# Altium footprint library GSM.PcbLib: 6 footprints
Each footprint in its own frame and in the unit in brackets; x right, y up, seen from the top. Pads: shape width x height; smd on the part's side, far side on the other; paste and mask are expansions set on the pad; w line width, h text height; cw(c..) or ccw(c..) is an arc to the next point about the centre after c.
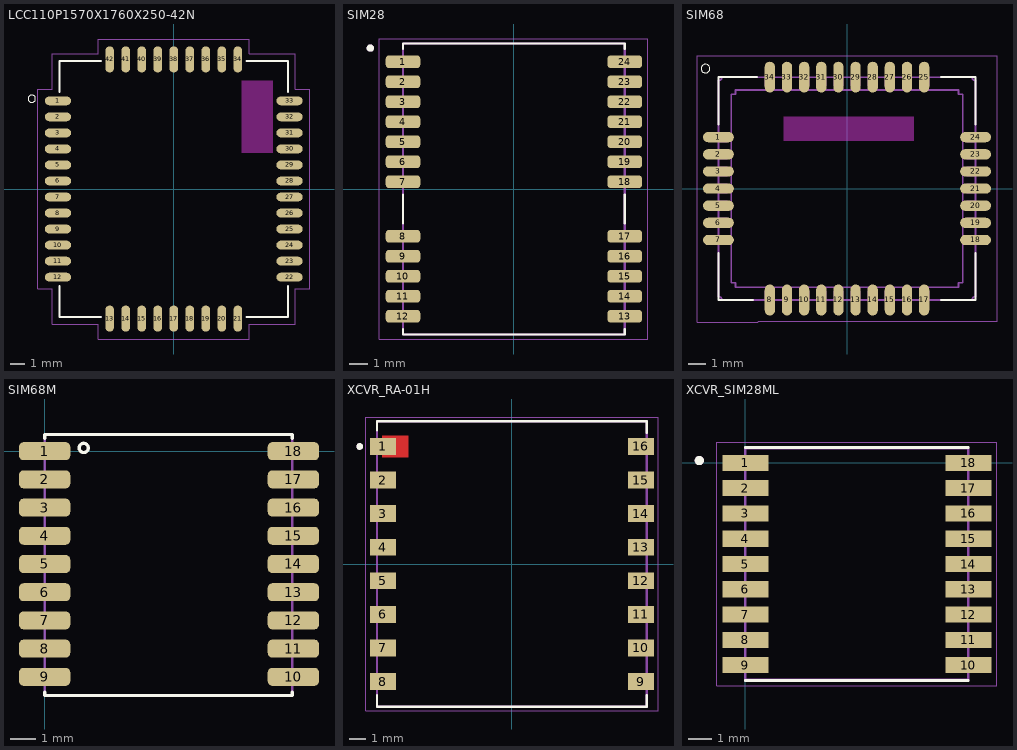
[diagram p0: the footprints below, top view; thin cyan lines are the x and y axes]

## LCC110P1570X1760X250-42N [mm]
pads (42):
  oval 1.8x0.6 smd: 1(-7.95,6.05) 2(-7.95,4.95) 3(-7.95,3.85) 4(-7.95,2.75) 5(-7.95,1.65) 6(-7.95,0.55) 7(-7.95,-0.55) 8(-7.95,-1.65) 9(-7.95,-2.75) 10(-7.95,-3.85) 11(-7.95,-4.95) 12(-7.95,-6.05) 22(7.95,-6.05) 23(7.95,-4.95) 24(7.95,-3.85) 25(7.95,-2.75) 26(7.95,-1.65) 27(7.95,-0.55) 28(7.95,0.55) 29(7.95,1.65) 30(7.95,2.75) 31(7.95,3.85) 32(7.95,4.95) 33(7.95,6.05)
  oval 0.6x1.8 smd: 13(-4.4,-8.9) 14(-3.3,-8.9) 15(-2.2,-8.9) 16(-1.1,-8.9) 17(0,-8.9) 18(1.1,-8.9) 19(2.2,-8.9) 20(3.3,-8.9) 21(4.4,-8.9) 34(4.4,8.9) 35(3.3,8.9) 36(2.2,8.9) 37(1.1,8.9) 38(0,8.9) 39(-1.1,8.9) 40(-2.2,8.9) 41(-3.3,8.9) 42(-4.4,8.9)
Top Overlay:
  circle w0: c-9.75,6.2 r0.254
  lines w0.127: -7.85,-6.65 -7.85,-8.8 -5,-8.8 ; -7.85,6.65 -7.85,8.8 -5,8.8 ; 5,-8.8 7.85,-8.8 7.85,-6.65 ; 5,8.8 7.85,8.8 7.85,6.65
Keep-Out Layer:
  region: 6.8,2.483 4.656,2.483 4.656,7.43 6.8,7.43
Top Component Outline:
  lines w0.05: -9.35,-6.85 -8.35,-6.85 -8.35,-9.3 -5.2,-9.3 -5.2,-10.3 5.2,-10.3 5.2,-9.3 8.35,-9.3 8.35,-6.85 9.35,-6.85 9.35,6.85 8.35,6.85 8.35,9.3 5.2,9.3 5.2,10.3 -5.2,10.3 -5.2,9.3 -8.35,9.3 -8.35,6.85 -9.35,6.85 -9.35,-6.85
3D body "SIM800C--3DModel-STEP-1.STEP": height 2.55, standoff 0.05, extent -7.85,-8.8 7.85,8.8

## SIM28 [mm]
pads (24):
  rrect50% 1.9x0.7 smd: 1(-6.1,7) 2(-6.1,5.9) 3(-6.1,4.8) 4(-6.1,3.7) 5(-6.1,2.6) 6(-6.1,1.5) 7(-6.1,0.4) 8(-6.1,-2.6) 9(-6.1,-3.7) 10(-6.1,-4.8) 11(-6.1,-5.9) 12(-6.1,-7) 13(6.1,-7) 14(6.1,-5.9) 15(6.1,-4.8) 16(6.1,-3.7) 17(6.1,-2.6) 18(6.1,0.4) 19(6.1,1.5) 20(6.1,2.6) 21(6.1,3.7) 22(6.1,4.8) 23(6.1,5.9) 24(6.1,7)
Top Overlay:
  circle w0.2: c-7.9,7.75 r0.1
  lines w0.127: -6.1,-7.7 -6.1,-8 6.1,-8 6.1,-7.7 ; -6.1,-1.9 -6.1,-0.3 ; -6.1,7.7 -6.1,8 6.1,8 6.1,7.7 ; 6.1,-1.9 6.1,-0.3
Top Assembly (Mech13):
  circle w0.2: c-7.9,7.75 r0.1
  lines w0.127: -6.1,-8 -6.1,8 6.1,8 6.1,-8 -6.1,-8
Top Component Outline:
  lines w0.05: -7.4,-8.25 -7.4,8.25 7.35,8.25 7.35,-8.25 -7.4,-8.25
3D body "User Library-SIM28.STEP": height 2.45, standoff 0.05, extent -6.1,-8 6.1,8

## SIM68 [mm] "SIM68 SIMCOM"
height 2.4
pads (34):
  oval 1.8x0.6 smd: 1(-7.5,3) 2(-7.5,2) 3(-7.5,1) 4(-7.5,0) 5(-7.5,-1) 6(-7.5,-2) 7(-7.5,-3) 18(7.5,-3) 19(7.5,-2) 20(7.5,-1) 21(7.5,0) 22(7.5,1) 23(7.5,2) 24(7.5,3)
  oval 0.6x1.8 smd: 8(-4.5,-6.5) 9(-3.5,-6.5) 10(-2.5,-6.5) 11(-1.5,-6.5) 12(-0.5,-6.5) 13(0.5,-6.5) 14(1.5,-6.5) 15(2.5,-6.5) 16(3.5,-6.5) 17(4.5,-6.5) 25(4.5,6.5) 26(3.5,6.5) 27(2.5,6.5) 28(1.5,6.5) 29(0.5,6.5) 30(-0.5,6.5) 31(-1.5,6.5) 32(-2.5,6.5) 33(-3.5,6.5) 34(-4.5,6.5)
Top Overlay:
  circle w0: c-8.25,7 r0.254
  lines w0.127: -7.5,-3.75 -7.5,-6.5 -5.5,-6.5 ; -7.5,3.75 -7.5,6.5 -5.25,6.5 ; 5.5,-6.5 7.5,-6.5 7.5,-3.75 ; 5.5,6.5 7.5,6.5 7.5,3.75
Keep-Out Layer:
  region: 3.9,4.2 3.9,2.8 -3.7,2.8 -3.7,4.2
Top Assembly (Mech13):
  drawing of 157 lines, arcs and shapes, not listed
Top Component Outline:
  lines w0.05: -8.75,-7.8 -8.75,-6.85 -8.75,6.85 -8.75,7.75 -5,7.75 5.4,7.75 8.75,7.75 8.75,6.85 8.75,-6.85 8.75,-7.75 5.25,-7.75 -5.15,-7.75 -5.2,-7.8 -8.75,-7.8
3D body: height 0.9, standoff 0, extent 6.991,2.747 7.501,3.254
3D body: height 0.9, standoff 0, extent -0.753,-6.501 -0.246,-5.991
3D body: height 0.9, standoff 0, extent -4.754,5.991 -4.247,6.501
3D body: height 0.9, standoff 0, extent -3.754,5.991 -3.247,6.501
3D body: height 0.9, standoff 0, extent -2.754,5.991 -2.247,6.501
3D body: height 0.9, standoff 0, extent -1.754,5.991 -1.247,6.501
3D body: height 0.9, standoff 0, extent -0.754,5.991 -0.247,6.501
3D body: height 0.9, standoff 0, extent 0.246,5.991 0.753,6.501
3D body: height 0.9, standoff 0, extent 1.246,5.991 1.753,6.501
3D body: height 0.9, standoff 0, extent 2.246,5.991 2.753,6.501
3D body: height 0.9, standoff 0, extent 3.246,5.991 3.753,6.501
3D body: height 0.9, standoff 0, extent 4.246,5.991 4.753,6.501
3D body: height 0.9, standoff 0, extent 4.247,-6.501 4.754,-5.991
3D body: height 0.9, standoff 0, extent 3.247,-6.501 3.754,-5.991
3D body: height 0.9, standoff 0, extent 2.247,-6.501 2.754,-5.991
3D body: height 0.9, standoff 0, extent 1.247,-6.501 1.754,-5.991
3D body: height 0.9, standoff 0, extent 0.247,-6.501 0.754,-5.991
3D body: height 0.9, standoff 0, extent -1.753,-6.501 -1.246,-5.991
3D body: height 0.9, standoff 0, extent -2.753,-6.501 -2.246,-5.991
3D body: height 0.9, standoff 0, extent -3.753,-6.501 -3.246,-5.991
3D body: height 0.9, standoff 0, extent -4.753,-6.501 -4.246,-5.991
3D body: height 0.9, standoff 0, extent 6.991,1.747 7.501,2.254
3D body: height 0.9, standoff 0, extent 6.991,0.747 7.501,1.254
3D body: height 0.9, standoff 0, extent 6.991,-0.253 7.501,0.254
3D body: height 0.9, standoff 0, extent 6.991,-1.253 7.501,-0.746
3D body: height 0.9, standoff 0, extent 6.991,-2.253 7.501,-1.746
3D body: height 0.9, standoff 0, extent 6.991,-3.253 7.501,-2.746
3D body: height 0.9, standoff 0, extent -7.501,-3.254 -6.991,-2.747
3D body: height 0.9, standoff 0, extent -7.501,-2.254 -6.991,-1.747
3D body: height 0.9, standoff 0, extent -7.501,-1.254 -6.991,-0.747
3D body: height 0.9, standoff 0, extent -7.501,-0.254 -6.991,0.253
3D body: height 0.9, standoff 0, extent -7.501,0.746 -6.991,1.253
3D body: height 0.9, standoff 0, extent -7.501,1.746 -6.991,2.253
3D body: height 0.9, standoff 0, extent -7.501,2.746 -6.991,3.253
3D body: height 2.4, standoff 0.9, extent -6.749,-5.749 6.749,5.749
3D body: height 0.9, standoff 0, extent -7.501,-6.501 7.501,6.501

## SIM68M [mm]
pads (18):
  rrect50% 2x0.7 smd: 1(0,0) 2(0,-1.1) 3(0,-2.2) 4(0,-3.3) 5(0,-4.4) 6(0,-5.5) 7(0,-6.6) 8(0,-7.7) 9(0,-8.8) 10(9.7,-8.8) 11(9.7,-7.7) 12(9.7,-6.6) 13(9.7,-5.5) 14(9.7,-4.4) 15(9.7,-3.3) 16(9.7,-2.2) 17(9.7,-1.1) 18(9.7,0)
Top Overlay:
  circle w0.127: c1.524,0.127 r0.18
  lines w0.127: 0,-9.398 0,-9.525 9.652,-9.525 9.652,-9.398 ; 0,0.508 0,0.65 9.652,0.65 9.652,0.508
Mechanical 1:
  lines w0.1: 0,-9.525 0,0.635 9.652,0.635 9.652,-9.525 0,-9.525
3D body "User Library-SIM68M.STEP": height 2.56, standoff -0.01, extent 0,-9.465 9.72,0.635

## XCVR_RA-01H [mm]
pads (16):
  rect 1.536x1 smd paste-2 mask+0: 1(-7.682,7)
  rect 1.536x1 smd: 2(-7.682,5) 3(-7.682,3) 4(-7.682,1) 5(-7.682,-1) 6(-7.682,-3) 7(-7.682,-5) 8(-7.682,-7) 9(7.682,-7) 10(7.682,-5) 11(7.682,-3) 12(7.682,-1) 13(7.682,1) 14(7.682,3) 15(7.682,5) 16(7.682,7)
Top Layer:
  region: -6.188,6.365 -7.724,6.365 -7.724,6.5 -8.45,6.5 -8.45,7.5 -7.724,7.5 -7.724,7.635 -6.188,7.635
Top Overlay:
  circle w0.2: c-9.069,7 r0.1
  lines w0.127: -8.031,-7.82 -8.031,-8.5 8.031,-8.5 8.031,-7.82 ; -8.031,7.955 -8.031,8.5 8.031,8.5 8.031,7.82
Top Paste:
  region: -6.188,6.365 -7.724,6.365 -7.724,6.5 -8.45,6.5 -8.45,7.5 -7.724,7.5 -7.724,7.635 -6.188,7.635
Top Solder:
  region: -6.088,6.265 -7.824,6.265 -7.824,6.4 -8.55,6.4 -8.55,7.6 -7.824,7.6 -7.824,7.735 -6.088,7.735
Top Assembly (Mech13):
  circle w0.2: c-9.069,7 r0.1
  lines w0.127: -8.031,-8.5 8.031,-8.5 8.031,8.5 -8.031,8.5 -8.031,-8.5
Top Component Outline:
  lines w0.05: -8.7,-8.75 -8.7,8.75 8.7,8.75 8.7,-8.75 -8.7,-8.75
3D body "step_temp.STEP": height 3.4, standoff 0, extent -8,-8.5 8,8.5

## XCVR_SIM28ML [mm]
pads (18):
  rect 2x0.7 smd: 1(0,0) 2(0,-1.1) 3(0,-2.2) 4(0,-3.3) 5(0,-4.4) 6(0,-5.5) 7(0,-6.6) 8(0,-7.7) 9(0,-8.8) 10(9.7,-8.8) 11(9.7,-7.7) 12(9.7,-6.6) 13(9.7,-5.5) 14(9.7,-4.4) 15(9.7,-3.3) 16(9.7,-2.2) 17(9.7,-1.1) 18(9.7,0)
Top Overlay:
  circle w0.2: c-2,0.1 r0.1
  lines w0.127: 0,-9.463 9.7,-9.463 ; 0,0.664 9.7,0.664
Top Assembly (Mech13):
  circle w0.2: c-2,0.1 r0.1
  lines w0.127: 0,-9.45 0,0.65 9.7,0.65 9.7,-9.45 0,-9.45
Top Component Outline:
  lines w0.05: -1.25,-9.7 -1.25,0.9 10.95,0.9 10.95,-9.7 -1.25,-9.7
3D body "User Library-SIM28M.STEP": height 2.61, standoff 0.04, extent -0.01,-9.45 9.71,0.65